# EAGLE library part HEADER-06 (library _Connectors)
generic 6-pin headers
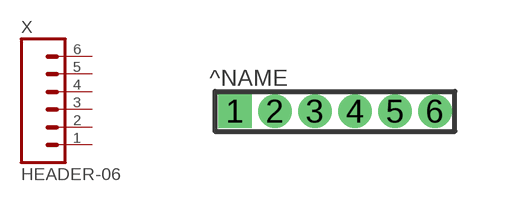
[diagram p0: symbol with the pads of HEADER-06-1MM; footprint HEADER-06-1MM]

Designator prefix X

## HEADER-06  [HEADER-06-1MM]
1  1  pas
2  2  pas
3  3  pas
4  4  pas
5  5  pas
6  6  pas

## Footprint HEADER-06-1MM (pad centres in mm)
1mm pitch 6 pin header
drill 0.33 square: 1 0,0
drill 0.33: 2 1,0; 3 2,0; 4 3,0; 5 4,0; 6 5,0